# EAGLE library part FAN1582 (library IC)
Fairchild Fan1582 3A Adjustable/fixed Ultra Low Dropout Linear Regulator
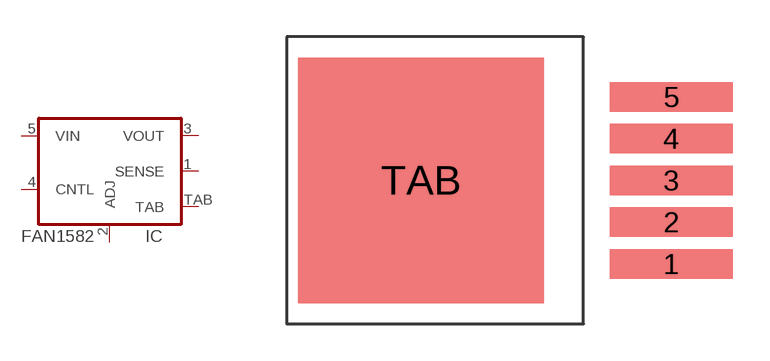
[diagram p52: symbol with the pads of TO-263-5; footprint TO-263-5]

Designator prefix IC

## FAN1582  [TO-263-5]
1  SENSE  pwr
2  ADJ  pwr
3  VOUT  pwr
4  CNTL  pwr
5  VIN  pwr
TAB  TAB  pwr

## Footprint TO-263-5 (pad centres in mm)
5-lead TO-263 package
smd 5 x 1.2: 1 0,-3.4; 2 0,-1.7; 3 0,0; 4 0,1.7; 5 0,3.4
smd 10 x 10: TAB -10.2,0